# EAGLE library part NRF51822_MODULE_MDBT40 (library Bluetooth-Garage)
nRF51822 Bluetooth Low Energy Module
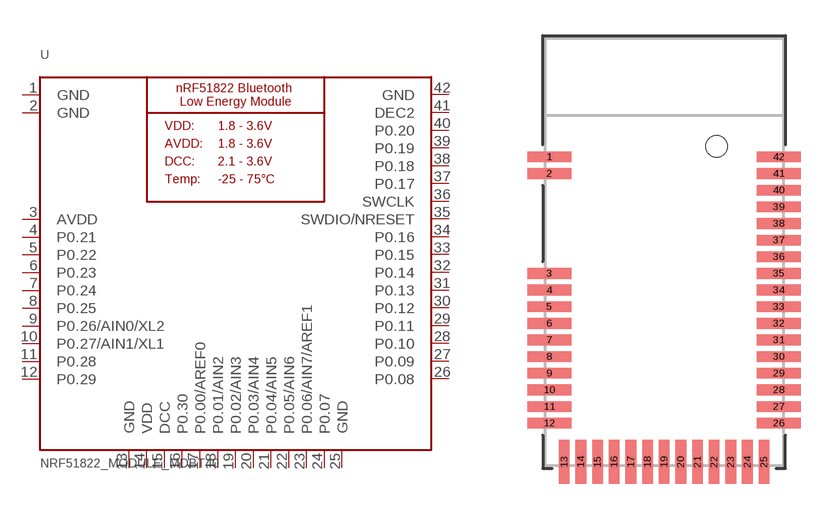
[diagram p0: symbol with the pads of BLE_MODULE_RAYTAC_MDBT40; footprint BLE_MODULE_RAYTAC_MDBT40]

Designator prefix U

## NRF51822_MODULE_MDBT40  [BLE_MODULE_RAYTAC_MDBT40]
1  GND  pwr
2  GND  pwr
3  AVDD  pwr
4  P0.21
5  P0.22
6  P0.23
7  P0.24
8  P0.25
9  P0.26/AIN0/XL2
10  P0.27/AIN1/XL1
11  P0.28
12  P0.29
13  GND  pwr
14  VDD  pwr
15  DCC  pwr
16  P0.30
17  P0.00/AREF0
18  P0.01/AIN2
19  P0.02/AIN3
20  P0.03/AIN4
21  P0.04/AIN5
22  P0.05/AIN6
23  P0.06/AIN7/AREF1
24  P0.07
25  GND  pwr
26  P0.08
27  P0.09
28  P0.10
29  P0.11
30  P0.12
31  P0.13
32  P0.14
33  P0.15
34  P0.16
35  SWDIO/NRESET
36  SWCLK
37  P0.17
38  P0.18
39  P0.19
40  P0.20
41  DEC2  pwr
42  GND  pwr

## Footprint BLE_MODULE_RAYTAC_MDBT40 (pad centres in mm)
smd 1.85 x 0.45: 1 -4.825,4; 2 -4.825,3.3; 3 -4.825,-0.9; 4 -4.825,-1.6; 5 -4.825,-2.3; 6 -4.825,-3; 7 -4.825,-3.7; 8 -4.825,-4.4; 9 -4.825,-5.1; 10 -4.825,-5.8; 11 -4.825,-6.5; 12 -4.825,-7.2; 26 4.825,-7.2; 27 4.825,-6.5; 28 4.825,-5.8; 29 4.825,-5.1; 30 4.825,-4.4; 31 4.825,-3.7; 32 4.825,-3; 33 4.825,-2.3; 34 4.825,-1.6; 35 4.825,-0.9; 36 4.825,-0.2; 37 4.825,0.5; 38 4.825,1.2; 39 4.825,1.9; 40 4.825,2.6; 41 4.825,3.3; 42 4.825,4
smd 0.45 x 1.85: 13 -4.2,-8.825; 14 -3.5,-8.825; 15 -2.8,-8.825; 16 -2.1,-8.825; 17 -1.4,-8.825; 18 -0.7,-8.825; 19 0,-8.825; 20 0.7,-8.825; 21 1.4,-8.825; 22 2.1,-8.825; 23 2.8,-8.825; 24 3.5,-8.825; 25 4.2,-8.825
hole 0.9 at 2.2,4.45